# EAGLE library part L6387E (library Custom_old)
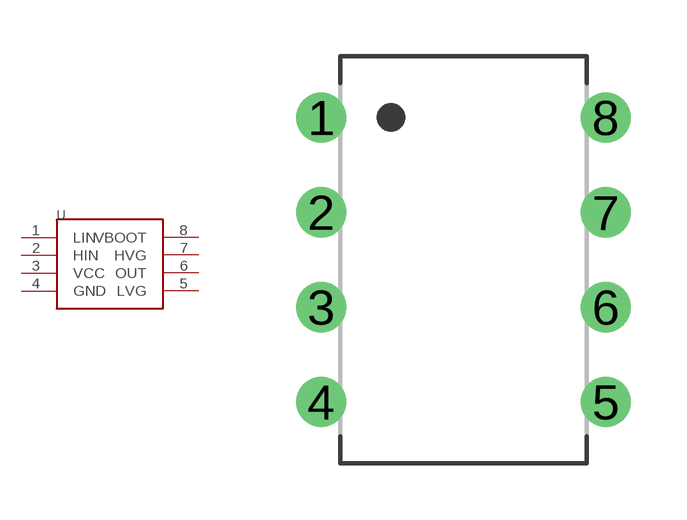
[diagram p28: symbol with the pads of DIP762W53P254L1092H508Q8B; footprint DIP762W53P254L1092H508Q8B]

Designator prefix -

## L6387EDIP8  [DIP762W53P254L1092H508Q8B]
1  LIN
2  HIN
3  VCC
4  GND
5  LVG
6  OUT
7  HVG
8  VBOOT

## Footprint DIP762W53P254L1092H508Q8B (pad centres in mm)
8-DIP, 2.54 mm (0.10 in) pitch, 7.62 mm (0.30 in) span, 10.92 X 6.60 X 5.08 mm body 8-pin DIP package with 2.54 mm (0.10 in) pitch, 7.62 mm (0.30 in) span with body size 10.92 X 6.60 X 5.08 mm
drill 0.743 pad 1.343: 1 -3.81,3.81; 2 -3.81,1.27; 3 -3.81,-1.27; 4 -3.81,-3.81; 5 3.81,-3.81; 6 3.81,-1.27; 7 3.81,1.27; 8 3.81,3.81